# Altium integrated library con-garry.IntLib: 24 symbols
Pins are listed as number, name and electrical type; pins without a type are passive.

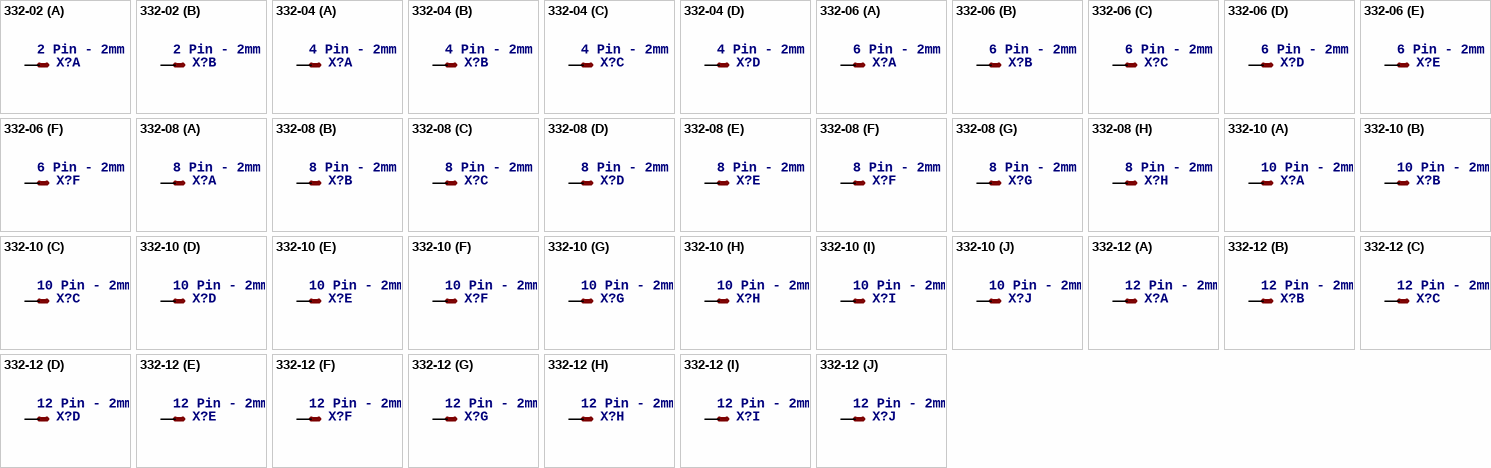
[diagram p0: symbols 332-02 to 332-12]

## 332-02
designator X?, comment 2 Pin - 2mm Dual Row   Source: www.mpe-connector.de / garry_shortform_2012.pdf
footprint 332-02
part A pins: 1 S
part B pins: 2 S

## 332-04
designator X?, comment 4 Pin - 2mm Dual Row   Source: www.mpe-connector.de / garry_shortform_2012.pdf
footprint 332-04
part A pins: 1 S
part B pins: 2 S
part C pins: 3 S
part D pins: 4 S

## 332-06
designator X?, comment 6 Pin - 2mm Dual Row   Source: www.mpe-connector.de / garry_shortform_2012.pdf
footprint 332-06
part A pins: 1 S
part B pins: 2 S
part C pins: 3 S
part D pins: 4 S
part E pins: 5 S
part F pins: 6 S

## 332-08
designator X?, comment 8 Pin - 2mm Dual Row   Source: www.mpe-connector.de / garry_shortform_2012.pdf
footprint 332-08
part A pins: 1 S
part B pins: 2 S
part C pins: 3 S
part D pins: 4 S
part E pins: 5 S
part F pins: 6 S
part G pins: 7 S
part H pins: 8 S

## 332-10
designator X?, comment 10 Pin - 2mm Dual Row   Source: www.mpe-connector.de / garry_shortform_2012.pdf
footprint 332-10
part A pins: 1 S
part B pins: 2 S
part C pins: 3 S
part D pins: 4 S
part E pins: 5 S
part F pins: 6 S
part G pins: 7 S
part H pins: 8 S
part I pins: 9 S
part J pins: 10 S

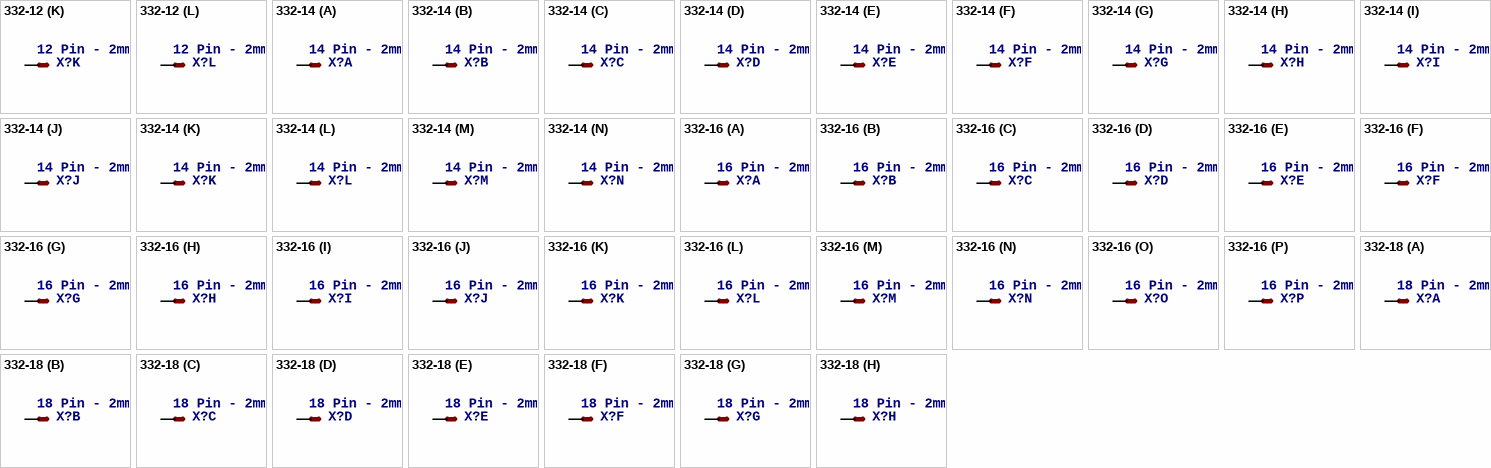
[diagram p1: symbols 332-12 to 332-18]

## 332-12
designator X?, comment 12 Pin - 2mm Dual Row   Source: www.mpe-connector.de / garry_shortform_2012.pdf
footprint 332-12
part A pins: 1 S
part B pins: 2 S
part C pins: 3 S
part D pins: 4 S
part E pins: 5 S
part F pins: 6 S
part G pins: 7 S
part H pins: 8 S
part I pins: 9 S
part J pins: 10 S
part K pins: 11 S
part L pins: 12 S

## 332-14
designator X?, comment 14 Pin - 2mm Dual Row   Source: www.mpe-connector.de / garry_shortform_2012.pdf
footprint 332-14
part A pins: 1 S
part B pins: 2 S
part C pins: 3 S
part D pins: 4 S
part E pins: 5 S
part F pins: 6 S
part G pins: 7 S
part H pins: 8 S
part I pins: 9 S
part J pins: 10 S
part K pins: 11 S
part L pins: 12 S
part M pins: 13 S
part N pins: 14 S

## 332-16
designator X?, comment 16 Pin - 2mm Dual Row   Source: www.mpe-connector.de / garry_shortform_2012.pdf
footprint 332-16
part A pins: 1 S
part B pins: 2 S
part C pins: 3 S
part D pins: 4 S
part E pins: 5 S
part F pins: 6 S
part G pins: 7 S
part H pins: 8 S
part I pins: 9 S
part J pins: 10 S
part K pins: 11 S
part L pins: 12 S
part M pins: 13 S
part N pins: 14 S
part O pins: 15 S
part P pins: 16 S

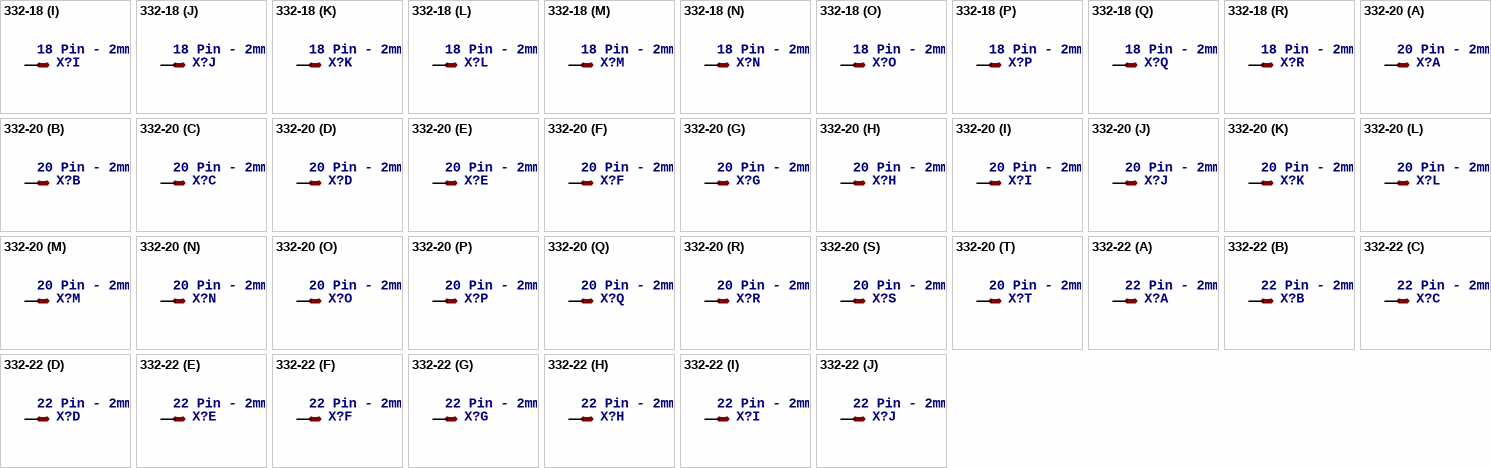
[diagram p2: symbols 332-18 to 332-22]

## 332-18
designator X?, comment 18 Pin - 2mm Dual Row   Source: www.mpe-connector.de / garry_shortform_2012.pdf
footprint 332-18
part A pins: 1 S
part B pins: 2 S
part C pins: 3 S
part D pins: 4 S
part E pins: 5 S
part F pins: 6 S
part G pins: 7 S
part H pins: 8 S
part I pins: 9 S
part J pins: 10 S
part K pins: 11 S
part L pins: 12 S
part M pins: 13 S
part N pins: 14 S
part O pins: 15 S
part P pins: 16 S
part Q pins: 17 S
part R pins: 18 S

## 332-20
designator X?, comment 20 Pin - 2mm Dual Row   Source: www.mpe-connector.de / garry_shortform_2012.pdf
footprint 332-20
part A pins: 1 S
part B pins: 2 S
part C pins: 3 S
part D pins: 4 S
part E pins: 5 S
part F pins: 6 S
part G pins: 7 S
part H pins: 8 S
part I pins: 9 S
part J pins: 10 S
part K pins: 11 S
part L pins: 12 S
part M pins: 13 S
part N pins: 14 S
part O pins: 15 S
part P pins: 16 S
part Q pins: 17 S
part R pins: 18 S
part S pins: 19 S
part T pins: 20 S

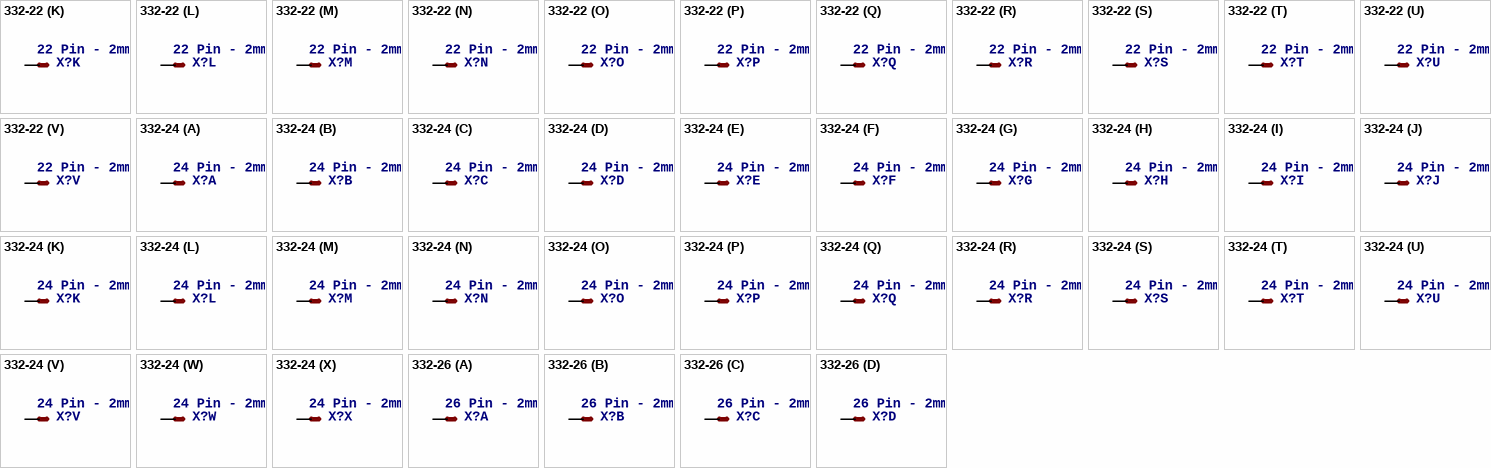
[diagram p3: symbols 332-22 to 332-26]

## 332-22
designator X?, comment 22 Pin - 2mm Dual Row   Source: www.mpe-connector.de / garry_shortform_2012.pdf
footprint 332-22
part A pins: 1 S
part B pins: 2 S
part C pins: 3 S
part D pins: 4 S
part E pins: 5 S
part F pins: 6 S
part G pins: 7 S
part H pins: 8 S
part I pins: 9 S
part J pins: 10 S
part K pins: 11 S
part L pins: 12 S
part M pins: 13 S
part N pins: 14 S
part O pins: 15 S
part P pins: 16 S
part Q pins: 17 S
part R pins: 18 S
part S pins: 19 S
part T pins: 20 S
part U pins: 21 S
part V pins: 22 S

## 332-24
designator X?, comment 24 Pin - 2mm Dual Row   Source: www.mpe-connector.de / garry_shortform_2012.pdf
footprint 332-24
part A pins: 1 S
part B pins: 2 S
part C pins: 3 S
part D pins: 4 S
part E pins: 5 S
part F pins: 6 S
part G pins: 7 S
part H pins: 8 S
part I pins: 9 S
part J pins: 10 S
part K pins: 11 S
part L pins: 12 S
part M pins: 13 S
part N pins: 14 S
part O pins: 15 S
part P pins: 16 S
part Q pins: 17 S
part R pins: 18 S
part S pins: 19 S
part T pins: 20 S
part U pins: 21 S
part V pins: 22 S
part W pins: 23 S
part X pins: 24 S

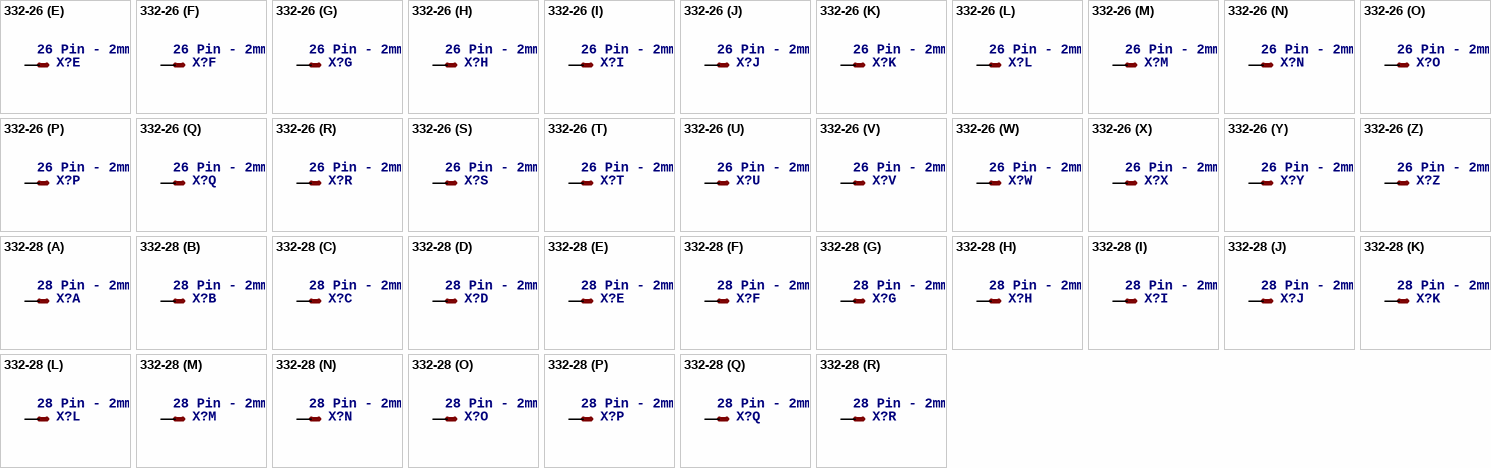
[diagram p4: symbols 332-26 to 332-28]

## 332-26
designator X?, comment 26 Pin - 2mm Dual Row   Source: www.mpe-connector.de / garry_shortform_2012.pdf
footprint 332-26
part A pins: 1 S
part B pins: 2 S
part C pins: 3 S
part D pins: 4 S
part E pins: 5 S
part F pins: 6 S
part G pins: 7 S
part H pins: 8 S
part I pins: 9 S
part J pins: 10 S
part K pins: 11 S
part L pins: 12 S
part M pins: 13 S
part N pins: 14 S
part O pins: 15 S
part P pins: 16 S
part Q pins: 17 S
part R pins: 18 S
part S pins: 19 S
part T pins: 20 S
part U pins: 21 S
part V pins: 22 S
part W pins: 23 S
part X pins: 24 S
part Y pins: 25 S
part Z pins: 26 S

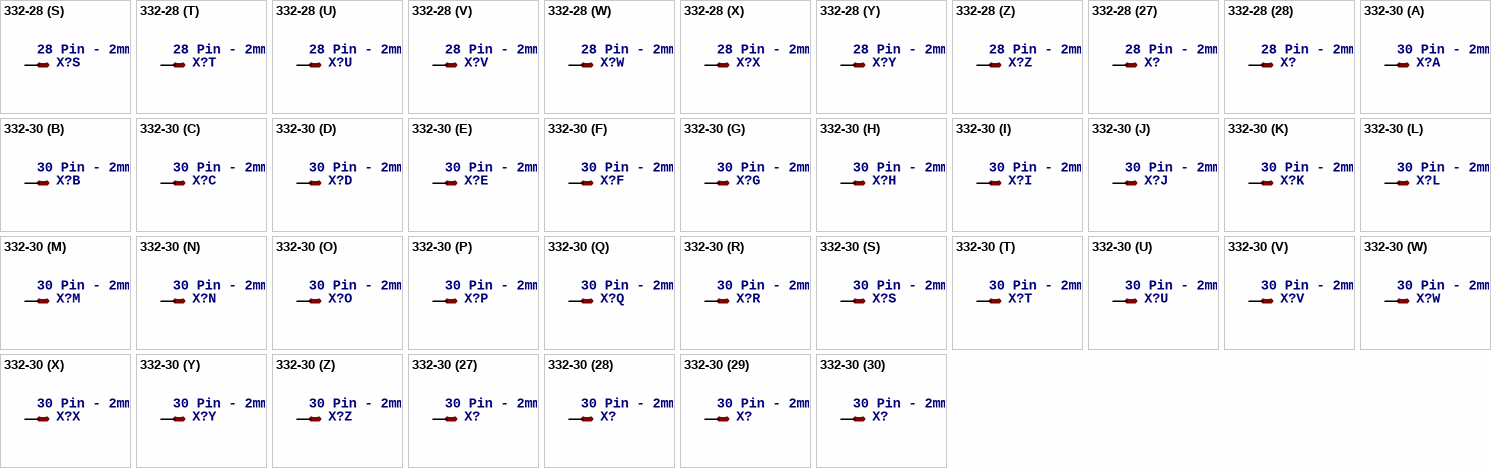
[diagram p5: symbols 332-28 to 332-30]

## 332-28
designator X?, comment 28 Pin - 2mm Dual Row   Source: www.mpe-connector.de / garry_shortform_2012.pdf
footprint 332-28
part A pins: 1 S
part B pins: 2 S
part C pins: 3 S
part D pins: 4 S
part E pins: 5 S
part F pins: 6 S
part G pins: 7 S
part H pins: 8 S
part I pins: 9 S
part J pins: 10 S
part K pins: 11 S
part L pins: 12 S
part M pins: 13 S
part N pins: 14 S
part O pins: 15 S
part P pins: 16 S
part Q pins: 17 S
part R pins: 18 S
part S pins: 19 S
part T pins: 20 S
part U pins: 21 S
part V pins: 22 S
part W pins: 23 S
part X pins: 24 S
part Y pins: 25 S
part Z pins: 26 S
part 27 pins: 27 S
part 28 pins: 28 S

## 332-30
designator X?, comment 30 Pin - 2mm Dual Row   Source: www.mpe-connector.de / garry_shortform_2012.pdf
footprint 332-30
part A pins: 1 S
part B pins: 2 S
part C pins: 3 S
part D pins: 4 S
part E pins: 5 S
part F pins: 6 S
part G pins: 7 S
part H pins: 8 S
part I pins: 9 S
part J pins: 10 S
part K pins: 11 S
part L pins: 12 S
part M pins: 13 S
part N pins: 14 S
part O pins: 15 S
part P pins: 16 S
part Q pins: 17 S
part R pins: 18 S
part S pins: 19 S
part T pins: 20 S
part U pins: 21 S
part V pins: 22 S
part W pins: 23 S
part X pins: 24 S
part Y pins: 25 S
part Z pins: 26 S
part 27 pins: 27 S
part 28 pins: 28 S
part 29 pins: 29 S
part 30 pins: 30 S

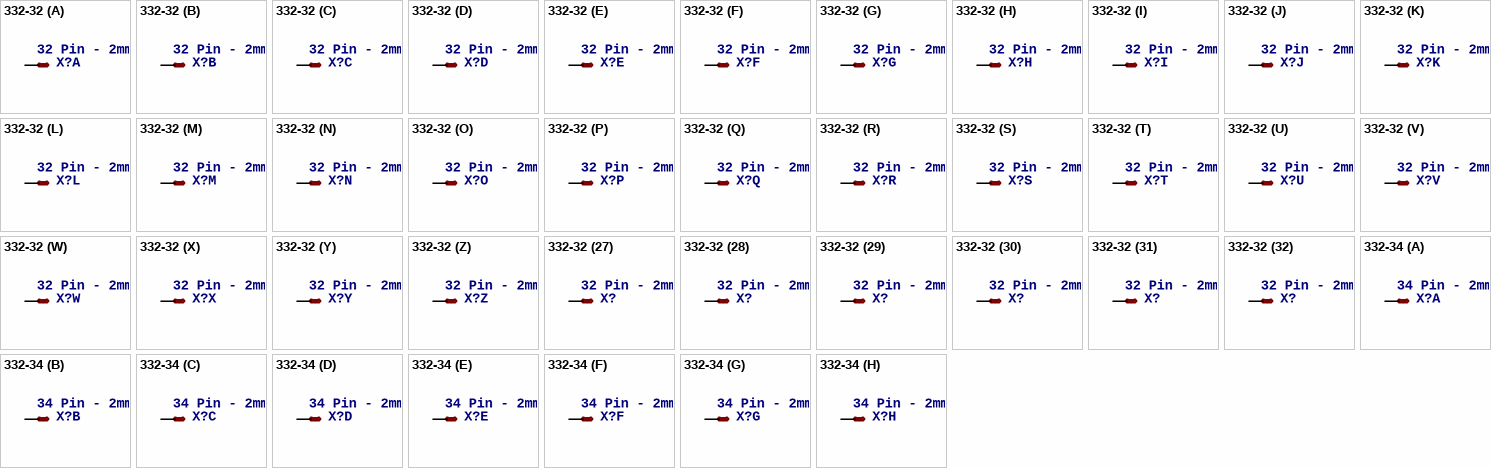
[diagram p6: symbols 332-32 to 332-34]

## 332-32
designator X?, comment 32 Pin - 2mm Dual Row   Source: www.mpe-connector.de / garry_shortform_2012.pdf
footprint 332-32
part A pins: 1 S
part B pins: 2 S
part C pins: 3 S
part D pins: 4 S
part E pins: 5 S
part F pins: 6 S
part G pins: 7 S
part H pins: 8 S
part I pins: 9 S
part J pins: 10 S
part K pins: 11 S
part L pins: 12 S
part M pins: 13 S
part N pins: 14 S
part O pins: 15 S
part P pins: 16 S
part Q pins: 17 S
part R pins: 18 S
part S pins: 19 S
part T pins: 20 S
part U pins: 21 S
part V pins: 22 S
part W pins: 23 S
part X pins: 24 S
part Y pins: 25 S
part Z pins: 26 S
part 27 pins: 27 S
part 28 pins: 28 S
part 29 pins: 29 S
part 30 pins: 30 S
part 31 pins: 31 S
part 32 pins: 32 S

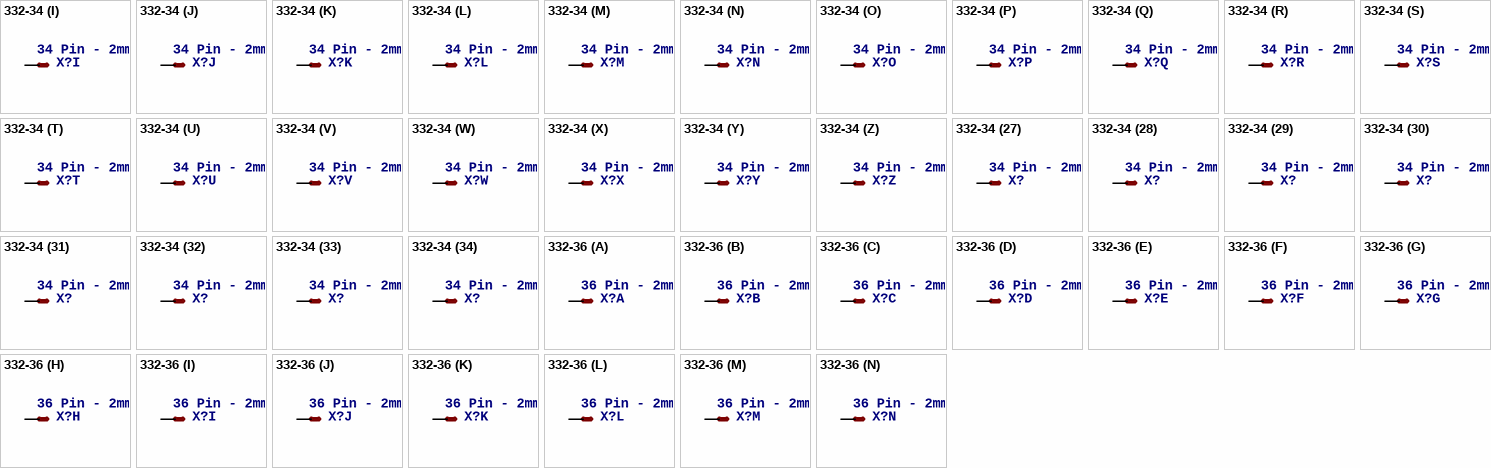
[diagram p7: symbols 332-34 to 332-36]

## 332-34
designator X?, comment 34 Pin - 2mm Dual Row   Source: www.mpe-connector.de / garry_shortform_2012.pdf
footprint 332-34
part A pins: 1 S
part B pins: 2 S
part C pins: 3 S
part D pins: 4 S
part E pins: 5 S
part F pins: 6 S
part G pins: 7 S
part H pins: 8 S
part I pins: 9 S
part J pins: 10 S
part K pins: 11 S
part L pins: 12 S
part M pins: 13 S
part N pins: 14 S
part O pins: 15 S
part P pins: 16 S
part Q pins: 17 S
part R pins: 18 S
part S pins: 19 S
part T pins: 20 S
part U pins: 21 S
part V pins: 22 S
part W pins: 23 S
part X pins: 24 S
part Y pins: 25 S
part Z pins: 26 S
part 27 pins: 27 S
part 28 pins: 28 S
part 29 pins: 29 S
part 30 pins: 30 S
part 31 pins: 31 S
part 32 pins: 32 S
part 33 pins: 33 S
part 34 pins: 34 S

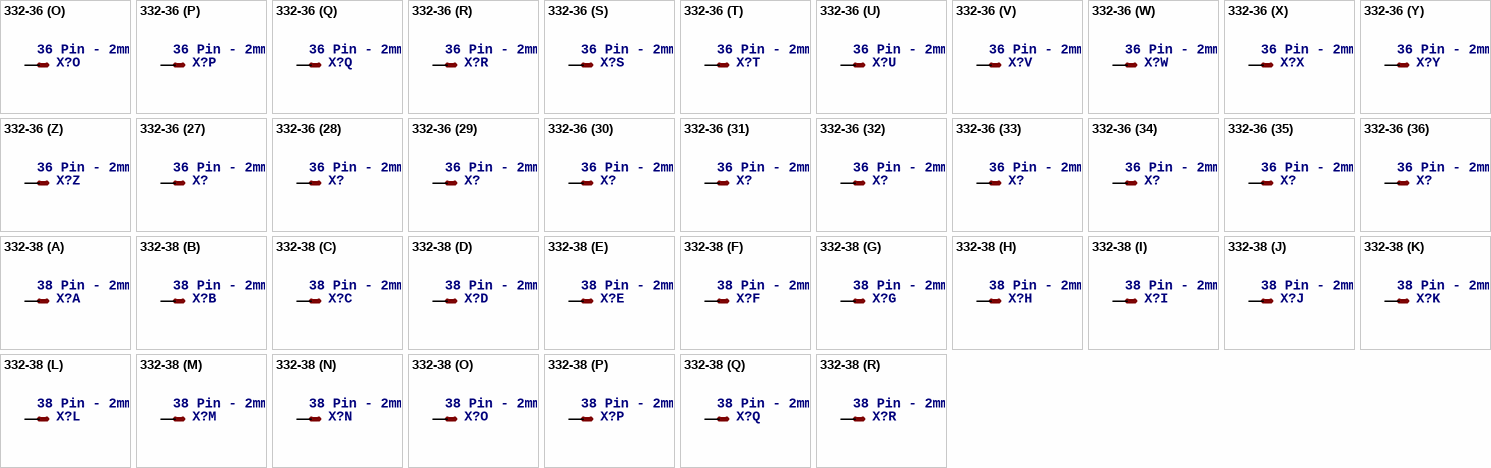
[diagram p8: symbols 332-36 to 332-38]

## 332-36
designator X?, comment 36 Pin - 2mm Dual Row   Source: www.mpe-connector.de / garry_shortform_2012.pdf
footprint 332-36
part A pins: 1 S
part B pins: 2 S
part C pins: 3 S
part D pins: 4 S
part E pins: 5 S
part F pins: 6 S
part G pins: 7 S
part H pins: 8 S
part I pins: 9 S
part J pins: 10 S
part K pins: 11 S
part L pins: 12 S
part M pins: 13 S
part N pins: 14 S
part O pins: 15 S
part P pins: 16 S
part Q pins: 17 S
part R pins: 18 S
part S pins: 19 S
part T pins: 20 S
part U pins: 21 S
part V pins: 22 S
part W pins: 23 S
part X pins: 24 S
part Y pins: 25 S
part Z pins: 26 S
part 27 pins: 27 S
part 28 pins: 28 S
part 29 pins: 29 S
part 30 pins: 30 S
part 31 pins: 31 S
part 32 pins: 32 S
part 33 pins: 33 S
part 34 pins: 34 S
part 35 pins: 35 S
part 36 pins: 36 S

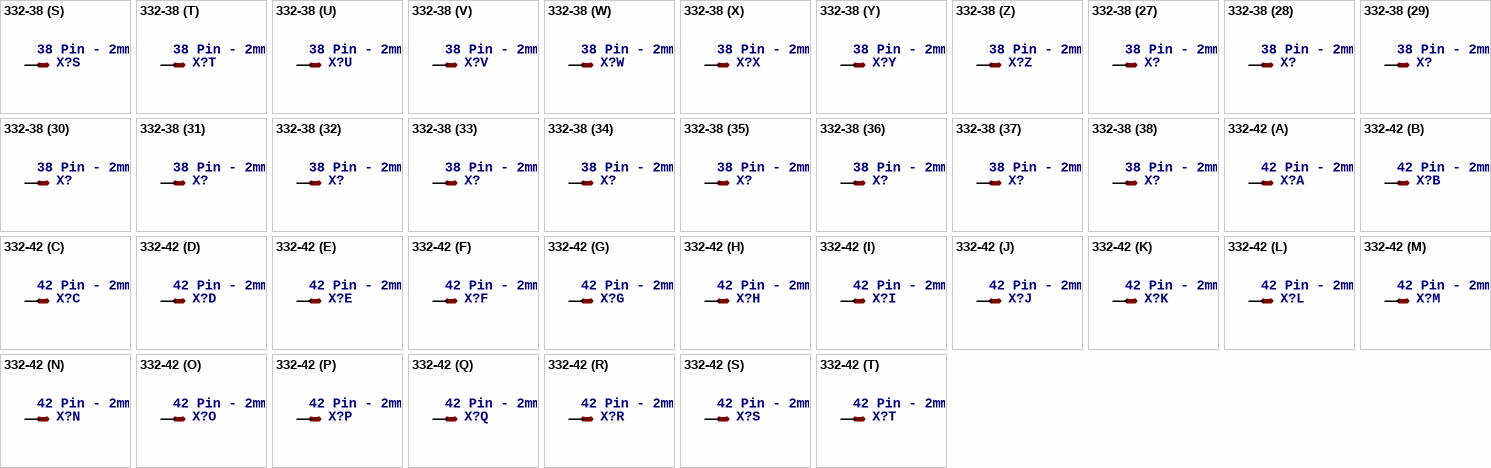
[diagram p9: symbols 332-38 to 332-42]

## 332-38
designator X?, comment 38 Pin - 2mm Dual Row   Source: www.mpe-connector.de / garry_shortform_2012.pdf
footprint 332-38
part A pins: 1 S
part B pins: 2 S
part C pins: 3 S
part D pins: 4 S
part E pins: 5 S
part F pins: 6 S
part G pins: 7 S
part H pins: 8 S
part I pins: 9 S
part J pins: 10 S
part K pins: 11 S
part L pins: 12 S
part M pins: 13 S
part N pins: 14 S
part O pins: 15 S
part P pins: 16 S
part Q pins: 17 S
part R pins: 18 S
part S pins: 19 S
part T pins: 20 S
part U pins: 21 S
part V pins: 22 S
part W pins: 23 S
part X pins: 24 S
part Y pins: 25 S
part Z pins: 26 S
part 27 pins: 27 S
part 28 pins: 28 S
part 29 pins: 29 S
part 30 pins: 30 S
part 31 pins: 31 S
part 32 pins: 32 S
part 33 pins: 33 S
part 34 pins: 34 S
part 35 pins: 35 S
part 36 pins: 36 S
part 37 pins: 37 S
part 38 pins: 38 S

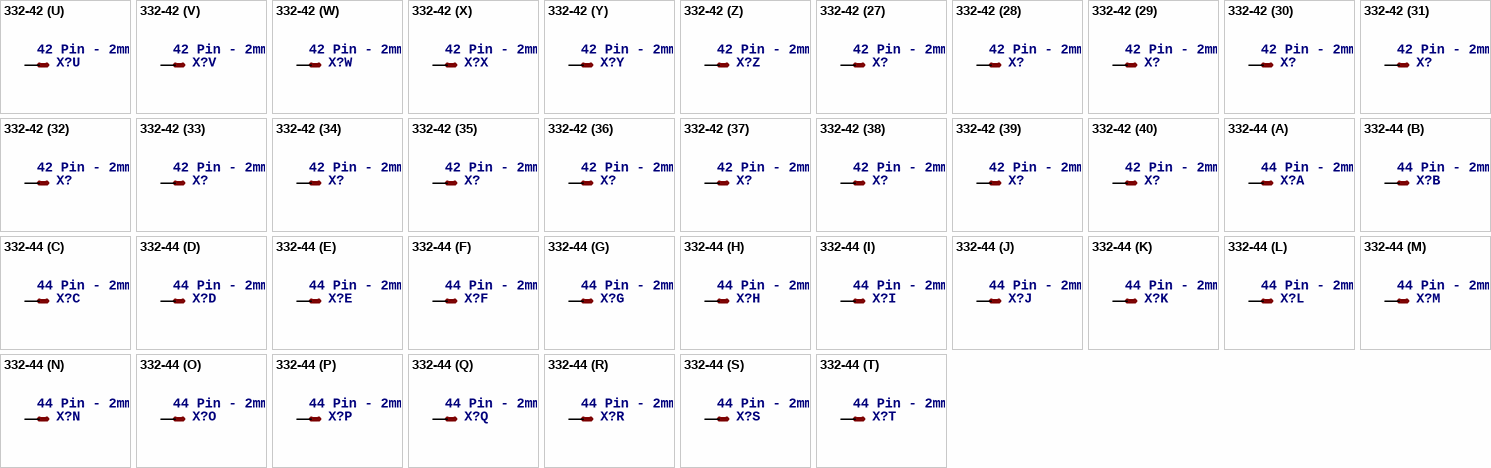
[diagram p10: symbols 332-42 to 332-44]

## 332-42
designator X?, comment 42 Pin - 2mm Dual Row   Source: www.mpe-connector.de / garry_shortform_2012.pdf
footprint 332-42
part A pins: 1 S
part B pins: 2 S
part C pins: 3 S
part D pins: 4 S
part E pins: 5 S
part F pins: 6 S
part G pins: 7 S
part H pins: 8 S
part I pins: 9 S
part J pins: 10 S
part K pins: 11 S
part L pins: 12 S
part M pins: 13 S
part N pins: 14 S
part O pins: 15 S
part P pins: 16 S
part Q pins: 17 S
part R pins: 18 S
part S pins: 19 S
part T pins: 20 S
part U pins: 21 S
part V pins: 22 S
part W pins: 23 S
part X pins: 24 S
part Y pins: 25 S
part Z pins: 26 S
part 27 pins: 27 S
part 28 pins: 28 S
part 29 pins: 29 S
part 30 pins: 30 S
part 31 pins: 31 S
part 32 pins: 32 S
part 33 pins: 33 S
part 34 pins: 34 S
part 35 pins: 35 S
part 36 pins: 36 S
part 37 pins: 37 S
part 38 pins: 38 S
part 39 pins: 39 S
part 40 pins: 40 S
part 41 pins: 41 S
part 42 pins: 42 S

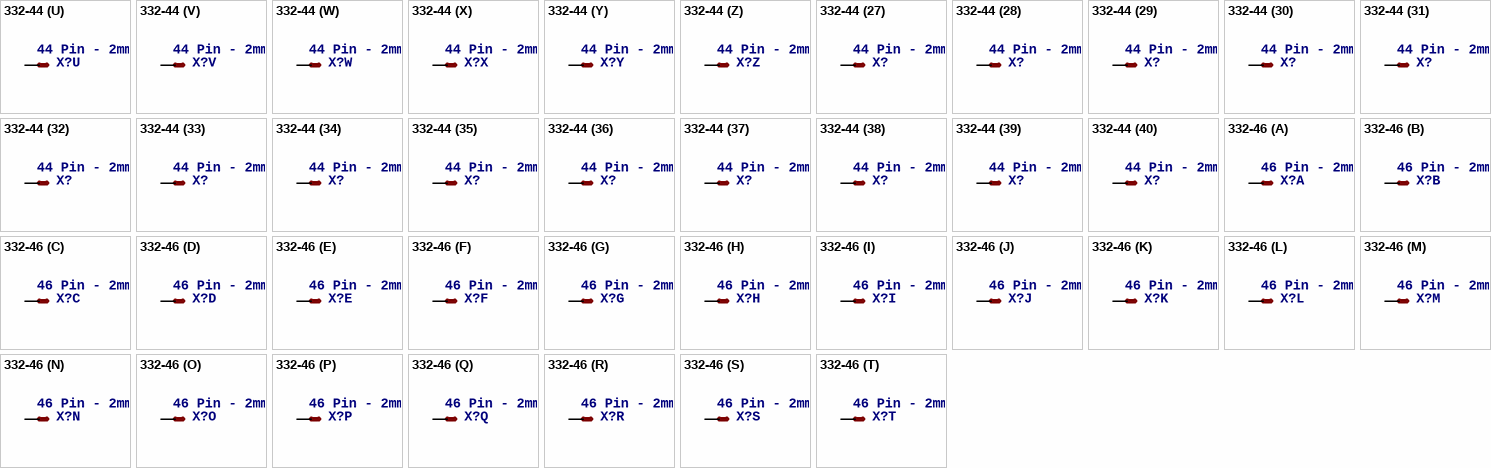
[diagram p11: symbols 332-44 to 332-46]

## 332-44
designator X?, comment 44 Pin - 2mm Dual Row   Source: www.mpe-connector.de / garry_shortform_2012.pdf
footprint 332-44
part A pins: 1 S
part B pins: 2 S
part C pins: 3 S
part D pins: 4 S
part E pins: 5 S
part F pins: 6 S
part G pins: 7 S
part H pins: 8 S
part I pins: 9 S
part J pins: 10 S
part K pins: 11 S
part L pins: 12 S
part M pins: 13 S
part N pins: 14 S
part O pins: 15 S
part P pins: 16 S
part Q pins: 17 S
part R pins: 18 S
part S pins: 19 S
part T pins: 20 S
part U pins: 21 S
part V pins: 22 S
part W pins: 23 S
part X pins: 24 S
part Y pins: 25 S
part Z pins: 26 S
part 27 pins: 27 S
part 28 pins: 28 S
part 29 pins: 29 S
part 30 pins: 30 S
part 31 pins: 31 S
part 32 pins: 32 S
part 33 pins: 33 S
part 34 pins: 34 S
part 35 pins: 35 S
part 36 pins: 36 S
part 37 pins: 37 S
part 38 pins: 38 S
part 39 pins: 39 S
part 40 pins: 40 S
part 41 pins: 41 S
part 42 pins: 42 S
part 43 pins: 43 S
part 44 pins: 44 S

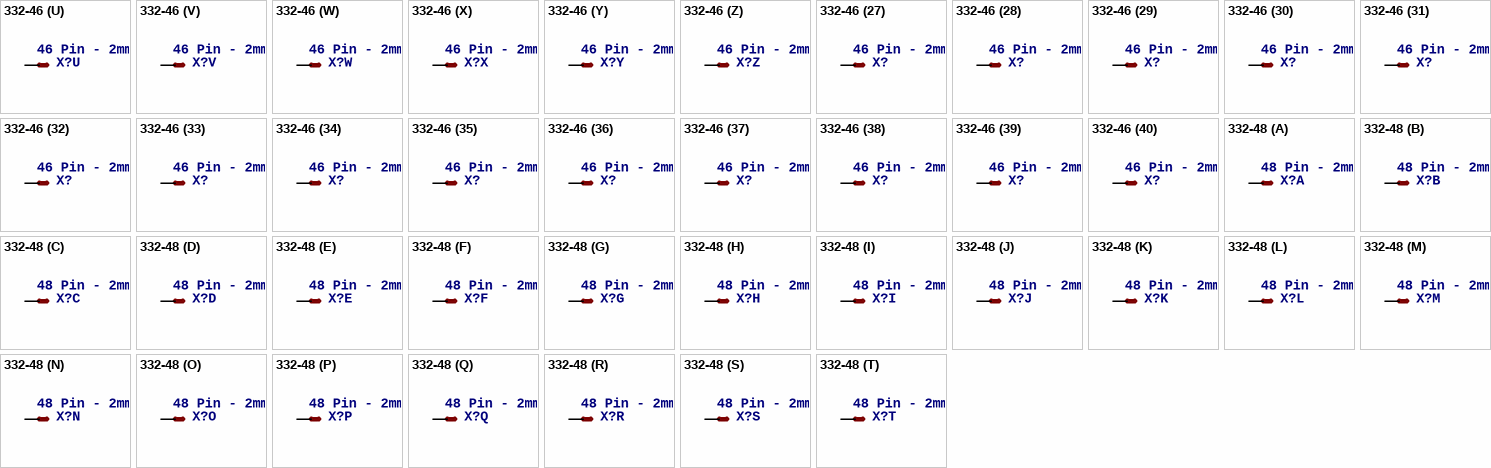
[diagram p12: symbols 332-46 to 332-48]

## 332-46
designator X?, comment 46 Pin - 2mm Dual Row   Source: www.mpe-connector.de / garry_shortform_2012.pdf
footprint 332-46
part A pins: 1 S
part B pins: 2 S
part C pins: 3 S
part D pins: 4 S
part E pins: 5 S
part F pins: 6 S
part G pins: 7 S
part H pins: 8 S
part I pins: 9 S
part J pins: 10 S
part K pins: 11 S
part L pins: 12 S
part M pins: 13 S
part N pins: 14 S
part O pins: 15 S
part P pins: 16 S
part Q pins: 17 S
part R pins: 18 S
part S pins: 19 S
part T pins: 20 S
part U pins: 21 S
part V pins: 22 S
part W pins: 23 S
part X pins: 24 S
part Y pins: 25 S
part Z pins: 26 S
part 27 pins: 27 S
part 28 pins: 28 S
part 29 pins: 29 S
part 30 pins: 30 S
part 31 pins: 31 S
part 32 pins: 32 S
part 33 pins: 33 S
part 34 pins: 34 S
part 35 pins: 35 S
part 36 pins: 36 S
part 37 pins: 37 S
part 38 pins: 38 S
part 39 pins: 39 S
part 40 pins: 40 S
part 41 pins: 41 S
part 42 pins: 42 S
part 43 pins: 43 S
part 44 pins: 44 S
part 45 pins: 45 S
part 46 pins: 46 S

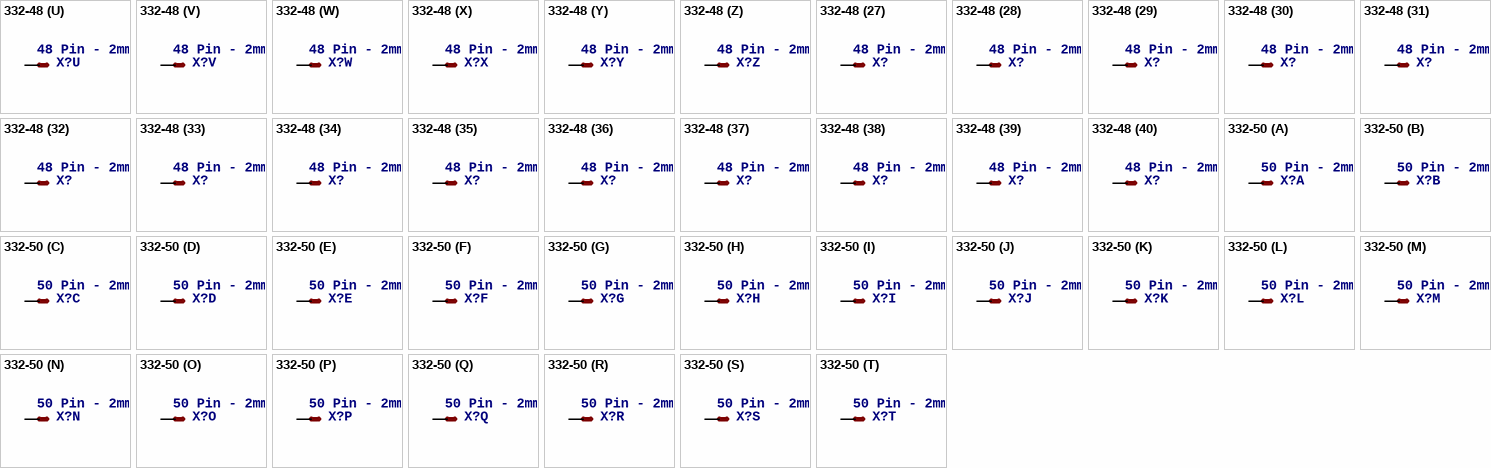
[diagram p13: symbols 332-48 to 332-50]

## 332-48
designator X?, comment 48 Pin - 2mm Dual Row   Source: www.mpe-connector.de / garry_shortform_2012.pdf
footprint 332-48
part A pins: 1 S
part B pins: 2 S
part C pins: 3 S
part D pins: 4 S
part E pins: 5 S
part F pins: 6 S
part G pins: 7 S
part H pins: 8 S
part I pins: 9 S
part J pins: 10 S
part K pins: 11 S
part L pins: 12 S
part M pins: 13 S
part N pins: 14 S
part O pins: 15 S
part P pins: 16 S
part Q pins: 17 S
part R pins: 18 S
part S pins: 19 S
part T pins: 20 S
part U pins: 21 S
part V pins: 22 S
part W pins: 23 S
part X pins: 24 S
part Y pins: 25 S
part Z pins: 26 S
part 27 pins: 27 S
part 28 pins: 28 S
part 29 pins: 29 S
part 30 pins: 30 S
part 31 pins: 31 S
part 32 pins: 32 S
part 33 pins: 33 S
part 34 pins: 34 S
part 35 pins: 35 S
part 36 pins: 36 S
part 37 pins: 37 S
part 38 pins: 38 S
part 39 pins: 39 S
part 40 pins: 40 S
part 41 pins: 41 S
part 42 pins: 42 S
part 43 pins: 43 S
part 44 pins: 44 S
part 45 pins: 45 S
part 46 pins: 46 S
part 47 pins: 47 S
part 48 pins: 48 S

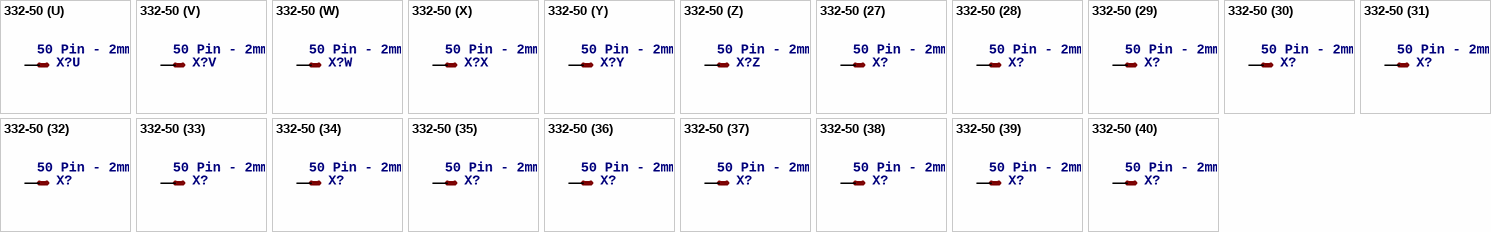
[diagram p14: symbol 332-50]

## 332-50
designator X?, comment 50 Pin - 2mm Dual Row   Source: www.mpe-connector.de / garry_shortform_2012.pdf
footprint 332-50
part A pins: 1 S
part B pins: 2 S
part C pins: 3 S
part D pins: 4 S
part E pins: 5 S
part F pins: 6 S
part G pins: 7 S
part H pins: 8 S
part I pins: 9 S
part J pins: 10 S
part K pins: 11 S
part L pins: 12 S
part M pins: 13 S
part N pins: 14 S
part O pins: 15 S
part P pins: 16 S
part Q pins: 17 S
part R pins: 18 S
part S pins: 19 S
part T pins: 20 S
part U pins: 21 S
part V pins: 22 S
part W pins: 23 S
part X pins: 24 S
part Y pins: 25 S
part Z pins: 26 S
part 27 pins: 27 S
part 28 pins: 28 S
part 29 pins: 29 S
part 30 pins: 30 S
part 31 pins: 31 S
part 32 pins: 32 S
part 33 pins: 33 S
part 34 pins: 34 S
part 35 pins: 35 S
part 36 pins: 36 S
part 37 pins: 37 S
part 38 pins: 38 S
part 39 pins: 39 S
part 40 pins: 40 S
part 41 pins: 41 S
part 42 pins: 42 S
part 43 pins: 43 S
part 44 pins: 44 S
part 45 pins: 45 S
part 46 pins: 46 S
part 47 pins: 47 S
part 48 pins: 48 S
part 49 pins: 49 S
part 50 pins: 50 S